# Altium footprint library Footprints.PcbLib: 3 footprints
Each footprint in its own frame and in the unit in brackets; x right, y up, seen from the top. Pads: shape width x height; smd on the part's side, far side on the other; paste and mask are expansions set on the pad; w line width, h text height; cw(c..) or ccw(c..) is an arc to the next point about the centre after c.
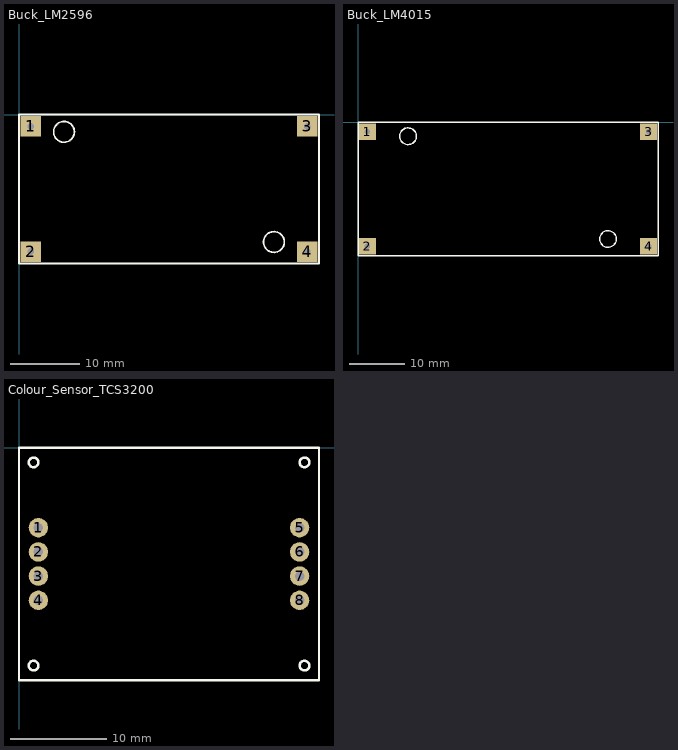
[diagram p0: the footprints below, top view; thin cyan lines are the x and y axes]

## Buck_LM2596 [mm]
height 11.5
pads (4):
  rect 3x3 hole 1: 1(1.7,-1.7) 2(1.7,-19.8) 3(41.6,-1.7) 4(41.6,-19.8)
Top Overlay:
  circle w0.254: c6.5,-2.5 r1.5
  circle w0.254: c36.8,-18.4 r1.5
  lines w0.254: 0,-21.5 0,0 43.3,0 43.3,-21.5 0,-21.5

## Buck_LM4015 [mm]
height 11.5
pads (4):
  rect 3x3 hole 1: 1(1.7,-1.7) 2(1.7,-22.3) 3(52.3,-1.7) 4(52.3,-22.3)
Top Overlay:
  circle w0.254: c9,-2.5 r1.5
  circle w0.254: c45,-21 r1.5
  lines w0.254: 0,-24 54,-24 54,0 0,0 0,-24

## Colour_Sensor_TCS3200 [mm]
pads (8):
  round 2 hole 1: 1(2,-8.25) 2(2,-10.75) 3(2,-13.25) 4(2,-15.75) 5(29,-8.25) 6(29,-10.75) 7(29,-13.25) 8(29,-15.75)
Top Overlay:
  circle w0.254: c29.5,-1.5 r0.5
  circle w0.254: c29.5,-22.5 r0.5
  circle w0.254: c1.5,-22.5 r0.5
  circle w0.254: c1.5,-1.5 r0.5
  lines w0.254: 0,-24 0,0 31,0 31,-24 0,-24